# EAGLE library part FX8-100P-SV (library con-hirose)
FX8 Series Header
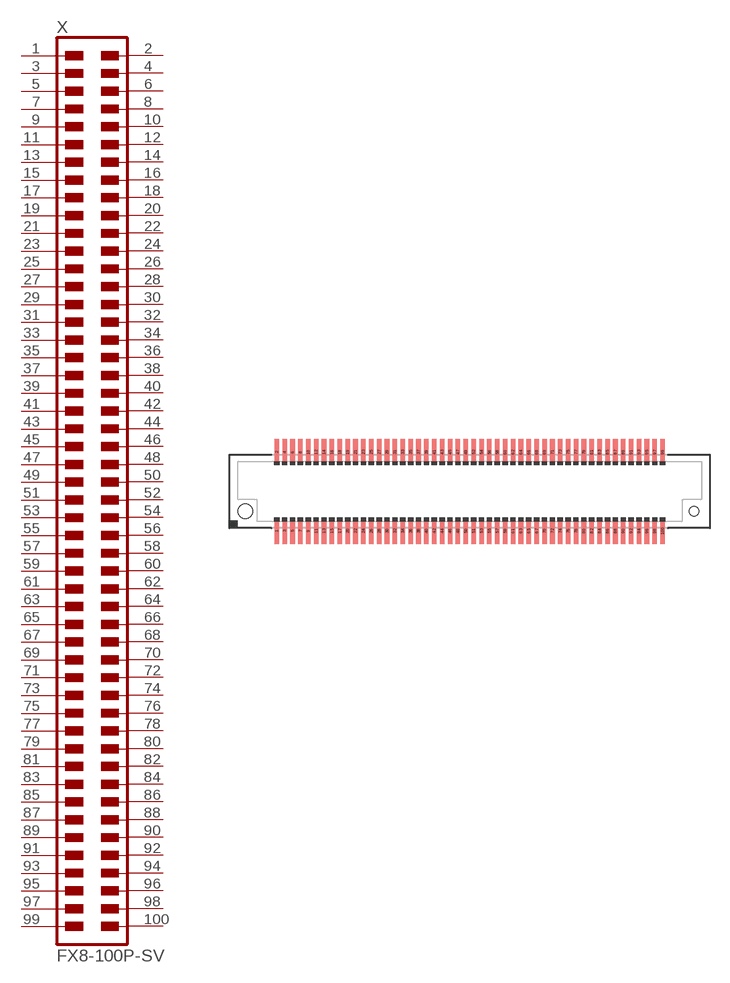
[diagram p32: symbol with the pads of FX8-100P-SV; footprint FX8-100P-SV]

Designator prefix X

## FX8-100P-SV  [FX8-100P-SV]
1  1  pas
2  2  pas
3  3  pas
4  4  pas
5  5  pas
6  6  pas
7  7  pas
8  8  pas
9  9  pas
10  10  pas
11  11  pas
12  12  pas
13  13  pas
14  14  pas
15  15  pas
16  16  pas
17  17  pas
18  18  pas
19  19  pas
20  20  pas
21  21  pas
22  22  pas
23  23  pas
24  24  pas
25  25  pas
26  26  pas
27  27  pas
28  28  pas
29  29  pas
30  30  pas
31  31  pas
32  32  pas
33  33  pas
34  34  pas
35  35  pas
36  36  pas
37  37  pas
38  38  pas
39  39  pas
40  40  pas
41  41  pas
42  42  pas
43  43  pas
44  44  pas
45  45  pas
46  46  pas
47  47  pas
48  48  pas
49  49  pas
50  50  pas
51  51  pas
52  52  pas
53  53  pas
54  54  pas
55  55  pas
56  56  pas
57  57  pas
58  58  pas
59  59  pas
60  60  pas
61  61  pas
62  62  pas
63  63  pas
64  64  pas
65  65  pas
66  66  pas
67  67  pas
68  68  pas
69  69  pas
70  70  pas
71  71  pas
72  72  pas
73  73  pas
74  74  pas
75  75  pas
76  76  pas
77  77  pas
78  78  pas
79  79  pas
80  80  pas
81  81  pas
82  82  pas
83  83  pas
84  84  pas
85  85  pas
86  86  pas
87  87  pas
88  88  pas
89  89  pas
90  90  pas
91  91  pas
92  92  pas
93  93  pas
94  94  pas
95  95  pas
96  96  pas
97  97  pas
98  98  pas
99  99  pas
100  100  pas

## Footprint FX8-100P-SV (pad centres in mm)
FX8-100S-SV Header, HIROSE
smd 0.35 x 2: 1 -14.7,-3; 2 -14.7,3; 3 -14.1,-3; 4 -14.1,3; 5 -13.5,-3; 6 -13.5,3; 7 -12.9,-3; 8 -12.9,3; 9 -12.3,-3; 10 -12.3,3; 11 -11.7,-3; 12 -11.7,3; 13 -11.1,-3; 14 -11.1,3; 15 -10.5,-3; 16 -10.5,3; 17 -9.9,-3; 18 -9.9,3; 19 -9.3,3; 20 -9.3,-3; 21 -8.7,3; 22 -8.7,-3; 23 -8.1,3; 24 -8.1,-3; 25 -7.5,3; 26 -7.5,-3; 27 -6.9,3; 28 -6.9,-3; 29 -6.3,3; 30 -6.3,-3; 31 -5.7,3; 32 -5.7,-3; 33 -5.1,3; 34 -5.1,-3; 35 -4.5,3; 36 -4.5,-3; 37 -3.9,3; 38 -3.9,-3; 39 -3.3,3; 40 -3.3,-3; 41 -2.7,3; 42 -2.7,-3; 43 -2.1,3; 44 -2.1,-3; 45 -1.5,3; 46 -1.5,-3; 47 -0.9,3; 48 -0.9,-3; 49 -0.3,3; 50 -0.3,-3; 51 0.3,-3; 52 0.3,3; 53 0.9,-3; 54 0.9,3; 55 1.5,-3; 56 1.5,3; 57 2.1,-3; 58 2.1,3; 59 2.7,-3; 60 2.7,3; 61 3.3,-3; 62 3.3,3; 63 3.9,-3; 64 3.9,3; 65 4.5,-3; 66 4.5,3; 67 5.1,-3; 68 5.1,3; 69 5.7,3; 70 5.7,-3; 71 6.3,3; 72 6.3,-3; 73 6.9,3; 74 6.9,-3; 75 7.5,3; 76 7.5,-3; 77 8.1,3; 78 8.1,-3; 79 8.7,3; 80 8.7,-3; 81 9.3,3; 82 9.3,-3; 83 9.9,3; 84 9.9,-3; 85 10.5,3; 86 10.5,-3; 87 11.1,3; 88 11.1,-3; 89 11.7,3; 90 11.7,-3; 91 12.3,3; 92 12.3,-3; 93 12.9,3; 94 12.9,-3; 95 13.5,3; 96 13.5,-3; 97 14.1,3; 98 14.1,-3; 99 14.7,3; 100 14.7,-3
hole 1.1 at -17.1,-1.5
hole 0.7 at 17.1,-1.5